# EAGLE library part DUAL-OPAMP (library jt_parts)
Burr Brown OPA2132U/UA SOIC-8 dual op amp. Modified from Sparkfun library.
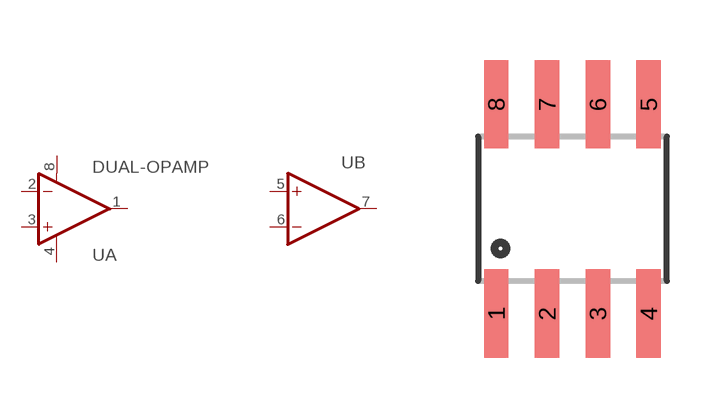
[diagram p1: symbol with the pads of SOIC-8; footprint SOIC-8]

Designator prefix -; gates B=OP-AMP A=OP-AMP+-

## DUAL-OPAMP  [SOIC-8]
1  A:OUT  out
2  A:-IN  in
3  A:+IN  in
4  A:V-  pwr
5  B:+IN  in
6  B:-IN  in
7  B:OUT  out
8  A:V+  pwr

## Footprint SOIC-8 (pad centres in mm)
smd 0.61 x 2.21: 1 -1.905,-2.616; 2 -0.635,-2.616; 3 0.635,-2.616; 4 1.905,-2.616; 5 1.905,2.616; 6 0.635,2.616; 7 -0.635,2.616; 8 -1.905,2.616